# EAGLE library part LT3574 (library wheat)
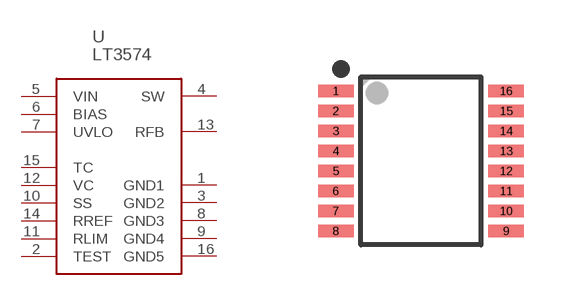
[diagram p200: symbol with the pads of MSOP16; footprint MSOP16]

Designator prefix -

## LT3574EMS  [MSOP16]
1  GND1
2  TEST
3  GND2
4  SW
5  VIN
6  BIAS
7  UVLO
8  GND3
9  GND4
10  SS
11  RLIM
12  VC
13  RFB
14  RREF
15  TC
16  GND5

## Footprint MSOP16 (pad centres in mm)
smd 0.889 x 0.305: 1 -2.13,1.75; 2 -2.13,1.25; 3 -2.13,0.75; 4 -2.13,0.25; 5 -2.13,-0.25; 6 -2.13,-0.75; 7 -2.13,-1.25; 8 -2.13,-1.75; 9 2.13,-1.75; 10 2.13,-1.25; 11 2.13,-0.75; 12 2.13,-0.25; 13 2.13,0.25; 14 2.13,0.75; 15 2.13,1.25; 16 2.13,1.75